# EAGLE library part NOKIA_5100 (library cellphone)
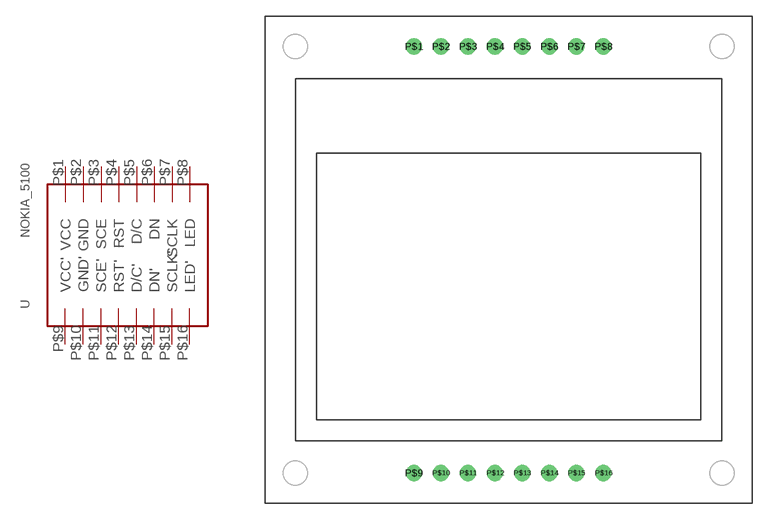
[diagram p2: symbol with the pads of NOKIA_5100_SPARKFUN; footprint NOKIA_5100_SPARKFUN]

Designator prefix -

## NOKIA_5100  [NOKIA_5100_SPARKFUN]
P$1  VCC
P$2  GND
P$3  SCE
P$4  RST
P$5  D/C
P$6  DN
P$7  SCLK
P$8  LED
P$9  VCC'
P$10  GND'
P$11  SCE'
P$12  RST'
P$13  D/C'
P$14  DN'
P$15  SCLK'
P$16  LED'

## Footprint NOKIA_5100_SPARKFUN (pad centres in mm)
drill 1: P$1 -8.89,20; P$2 -6.35,20; P$3 -3.81,20; P$4 -1.27,20; P$5 1.27,20; P$6 3.81,20; P$7 6.35,20; P$8 8.89,20; P$9 -8.89,-20; P$10 -6.35,-20; P$11 -3.81,-20; P$12 -1.27,-20; P$13 1.27,-20; P$14 3.81,-20; P$15 6.35,-20; P$16 8.89,-20